# Altium footprint library IDC_connectors.PcbLib: 4 footprints
Each footprint in its own frame and in the unit in brackets; x right, y up, seen from the top. Pads: shape width x height; smd on the part's side, far side on the other; paste and mask are expansions set on the pad; w line width, h text height; cw(c..) or ccw(c..) is an arc to the next point about the centre after c.
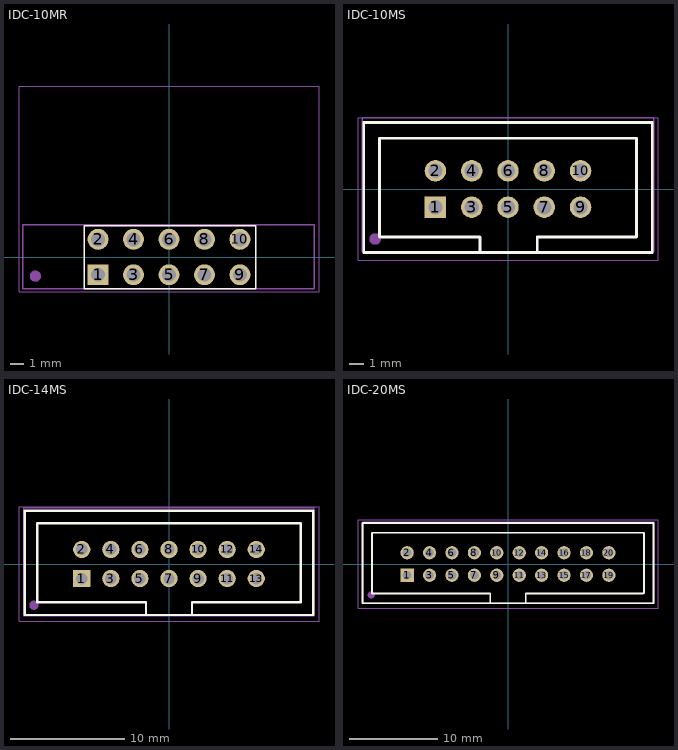
[diagram p0: the footprints below, top view; thin cyan lines are the x and y axes]

## IDC-10MR [mm]
height 10
pads (10):
  rect 1.5x1.5 hole 1: 1(-5.08,-1.27)
  round 1.5 hole 1: 2(-5.08,1.27) 3(-2.54,-1.27) 4(-2.54,1.27) 5(0,-1.27) 6(0,1.27) 7(2.54,-1.27) 8(2.54,1.27) 9(5.08,-1.27) 10(5.08,1.27)
Top Overlay:
  lines w0.1: -6.08,-2.27 -6.08,2.23 6.22,2.23 6.22,-2.27 -6.08,-2.27
Top Assembly:
  circle w0.4: c-9.58,-1.37 r0.2
  lines w0.1: -10.48,-2.27 -10.48,2.3 10.42,2.3 10.42,-2.27 -10.48,-2.27
  text ".Designator" at -4.998,-0.333 h1
Top Courtyard (Mech15):
  lines w0.05: -10.75,-2.5 10.75,-2.5 10.75,12.25 -10.75,12.25 -10.75,-2.5
3D body "User Library-IDC Socket Male 10pin Angled THT Goldplated 2_54mm.step": height 8.98, standoff -2.37, extent -10.47,-1.596 10.47,11.964

## IDC-10MS [mm]
pads (10):
  rect 1.5x1.5 hole 1: 1(-5.08,-1.27)
  round 1.5 hole 1: 2(-5.08,1.27) 3(-2.54,-1.27) 4(-2.54,1.27) 5(0,-1.27) 6(0,1.27) 7(2.54,-1.27) 8(2.54,1.27) 9(5.08,-1.27) 10(5.08,1.27)
Top Overlay:
  lines w0.2: -1.95,-4.4 -1.95,-3.35 -9,-3.35 -9,3.55 9,3.55 9,-3.35 2.05,-3.35 2.05,-4.45 ; -10.1,-4.45 -10.1,4.65 10.1,4.65 10.1,-4.45 -10.1,-4.45
Top Assembly:
  circle w0.4: c-9.3,-3.5 r0.2
  lines w0.1: -10.2,-4.4 10.2,-4.4 10.2,5 -10.2,5 -10.2,-4.4
  text ".Designator" at -4.998,-0.333 h1
Top Courtyard (Mech15):
  lines w0.05: -10.5,-5 -10.5,5 10.5,5 10.5,-5 -10.5,-5
3D body "User Library-IDC-10MS.STEP": height 9.45, standoff -3.25, extent -10.2,-4.4 10.2,4.95

## IDC-14MS [mm]
pads (14):
  rect 1.5x1.5 hole 1: 1(-7.62,-1.27)
  round 1.5 hole 1: 2(-7.62,1.27) 3(-5.08,-1.27) 4(-5.08,1.27) 5(-2.54,-1.27) 6(-2.54,1.27) 7(0,-1.27) 8(0,1.27) 9(2.54,-1.27) 10(2.54,1.27) 11(5.08,-1.27) 12(5.08,1.27) 13(7.62,-1.27) 14(7.62,1.27)
Top Overlay:
  lines w0.2: -2,-4.4 -2,-3.35 -11.5,-3.35 -11.5,3.55 11.5,3.55 11.5,-3.35 2,-3.35 2,-4.45 ; -12.6,-4.45 -12.6,4.65 12.6,4.65 12.6,-4.45 -12.6,-4.45
Top Assembly:
  circle w0.4: c-11.8,-3.6 r0.2
  lines w0.1: -12.7,-4.5 -12.7,4.9 12.7,4.9 12.7,-4.5 -12.7,-4.5
  text ".Designator" at -4.998,-0.333 h1
Top Courtyard (Mech15):
  lines w0.05: -13.1,-5 -13.1,5 13.1,5 13.1,-5 -13.1,-5
3D body "User Library-IDC-14MS.STEP": height 9.45, standoff -3.25, extent -12.7,-4.5 12.7,4.85

## IDC-20MS [mm]
pads (20):
  rect 1.5x1.5 hole 1: 1(-11.43,-1.27)
  round 1.5 hole 1: 2(-11.43,1.27) 3(-8.89,-1.27) 4(-8.89,1.27) 5(-6.35,-1.27) 6(-6.35,1.27) 7(-3.81,-1.27) 8(-3.81,1.27) 9(-1.27,-1.27) 10(-1.27,1.27) 11(1.27,-1.27) 12(1.27,1.27) 13(3.81,-1.27) 14(3.81,1.27) 15(6.35,-1.27) 16(6.35,1.27) 17(8.89,-1.27) 18(8.89,1.27) 19(11.43,-1.27) 20(11.43,1.27)
Top Overlay:
  lines w0.2: -15.4,3.5 -15.4,-3.35 -2,-3.35 -2,-4.4 ; -15.4,3.55 15.4,3.55 15.4,-3.3 ; 2,-4.45 2,-3.35 15.3,-3.35 ; -16.5,-4.45 -16.5,4.65 16.5,4.65 16.5,-4.45 -16.5,-4.45
Top Assembly:
  circle w0.4: c-15.5,-3.5 r0.2
  lines w0.1: -16.4,-4.4 16.6,-4.4 16.6,4.8 -16.4,4.8 -16.4,-4.4
  text ".Designator" at -4.998,-0.333 h1
Top Courtyard (Mech15):
  lines w0.05: -17,-5 -17,5 17,5 17,-5 -17,-5
3D body "User Library-BH-20.step": height 9.15, standoff -2.7, extent -16.42,-4.35 16.6,4.75